# EAGLE library part XC2C64A-7CPG56C (library CPLD)
IC CPLD 64MC 6.7NS 56BGA Manufacturer's datasheet <https://www.xilinx.com/support/documentation/package_specs/cp56.pdf>
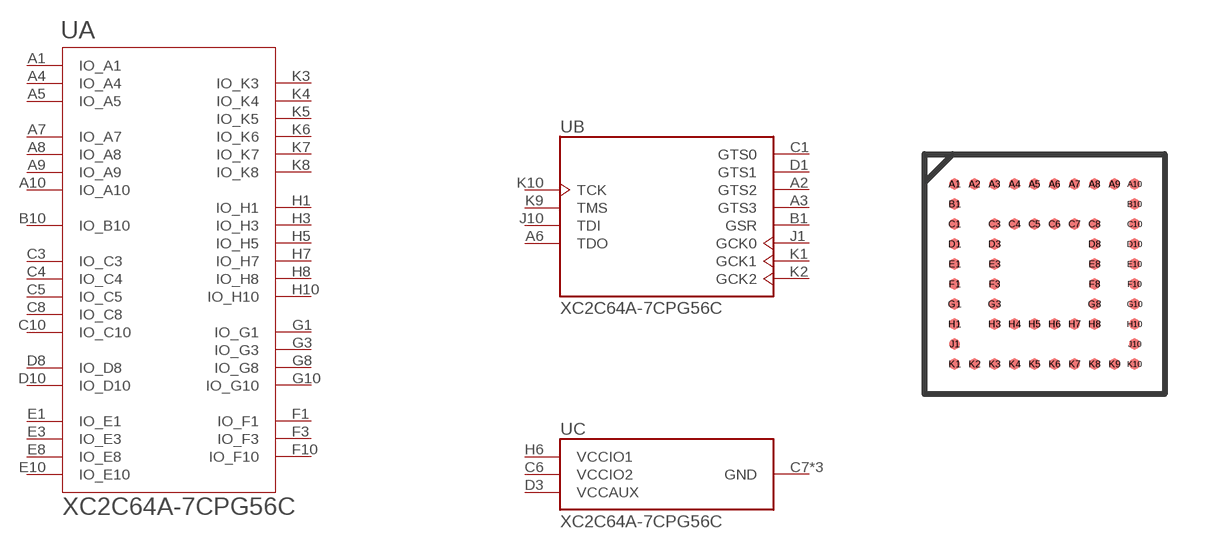
[diagram p3: symbol with the pads of BGA56; footprint BGA56]

Designator prefix U; gates A=XC2C64A-7CPG56C_IO B=XC2C64A-7CPG56C_CLK_JTAG C=XC2C64A-7CPG56C_PWR

## XC2C64A-7CPG56C (CREATEDBY: PCBLayout.com; DIGIKEY_PARTNO: 122-1408-ND; MANUFACTURER: Xilinx Inc.; MPN: XC2C64A-7CPG56C)  [BGA56]
A1  A:IO_A1
A2  B:GTS2
A3  B:GTS3
A4  A:IO_A4
A5  A:IO_A5
A6  B:TDO  out
A7  A:IO_A7
A8  A:IO_A8
A9  A:IO_A9
A10  A:IO_A10
B1  B:GSR
B10  A:IO_B10
C1  B:GTS0
C3  A:IO_C3
C4  A:IO_C4
C5  A:IO_C5
C6  C:VCCIO2  pwr
C7  C:GND  pwr
C8  A:IO_C8
C10  A:IO_C10
D1  B:GTS1
D3  C:VCCAUX  pwr
D8  A:IO_D8
D10  A:IO_D10
E1  A:IO_E1
E3  A:IO_E3
E8  A:IO_E8
E10  A:IO_E10
F1  A:IO_F1
F3  A:IO_F3
F8  C:GND  pwr
F10  A:IO_F10
G1  A:IO_G1
G3  A:IO_G3
G8  A:IO_G8
G10  A:IO_G10
H1  A:IO_H1
H3  A:IO_H3
H4  C:GND  pwr
H5  A:IO_H5
H6  C:VCCIO1  pwr
H7  A:IO_H7
H8  A:IO_H8
H10  A:IO_H10
J1  B:GCK0
J10  B:TDI  in
K1  B:GCK1
K2  B:GCK2
K3  A:IO_K3
K4  A:IO_K4
K5  A:IO_K5
K6  A:IO_K6
K7  A:IO_K7
K8  A:IO_K8
K9  B:TMS
K10  B:TCK

## Footprint BGA56 (pad centres in mm)
smd 0.27 x 0.27: A1 -2.25,2.25; A2 -1.75,2.25; A3 -1.25,2.25; A4 -0.75,2.25; A5 -0.25,2.25; A6 0.25,2.25; A7 0.75,2.25; A8 1.25,2.25; A9 1.75,2.25; A10 2.25,2.25; B1 -2.25,1.75; B10 2.25,1.75; C1 -2.25,1.25; C3 -1.25,1.25; C4 -0.75,1.25; C5 -0.25,1.25; C6 0.25,1.25; C7 0.75,1.25; C8 1.25,1.25; C10 2.25,1.25; D1 -2.25,0.75; D3 -1.25,0.75; D8 1.25,0.75; D10 2.25,0.75; E1 -2.25,0.25; E3 -1.25,0.25; E8 1.25,0.25; E10 2.25,0.25; F1 -2.25,-0.25; F3 -1.25,-0.25; F8 1.25,-0.25; F10 2.25,-0.25; G1 -2.25,-0.75; G3 -1.25,-0.75; G8 1.25,-0.75; G10 2.25,-0.75; H1 -2.25,-1.25; H3 -1.25,-1.25; H4 -0.75,-1.25; H5 -0.25,-1.25; H6 0.25,-1.25; H7 0.75,-1.25; H8 1.25,-1.25; H10 2.25,-1.25; J1 -2.25,-1.75; J10 2.25,-1.75; K1 -2.25,-2.25; K2 -1.75,-2.25; K3 -1.25,-2.25; K4 -0.75,-2.25; K5 -0.25,-2.25; K6 0.25,-2.25; K7 0.75,-2.25; K8 1.25,-2.25; K9 1.75,-2.25; K10 2.25,-2.25